# Altium integrated library HARTING DIN 41612 Type M.IntLib: 24 symbols
Pins are listed as number, name and electrical type; pins without a type are passive.

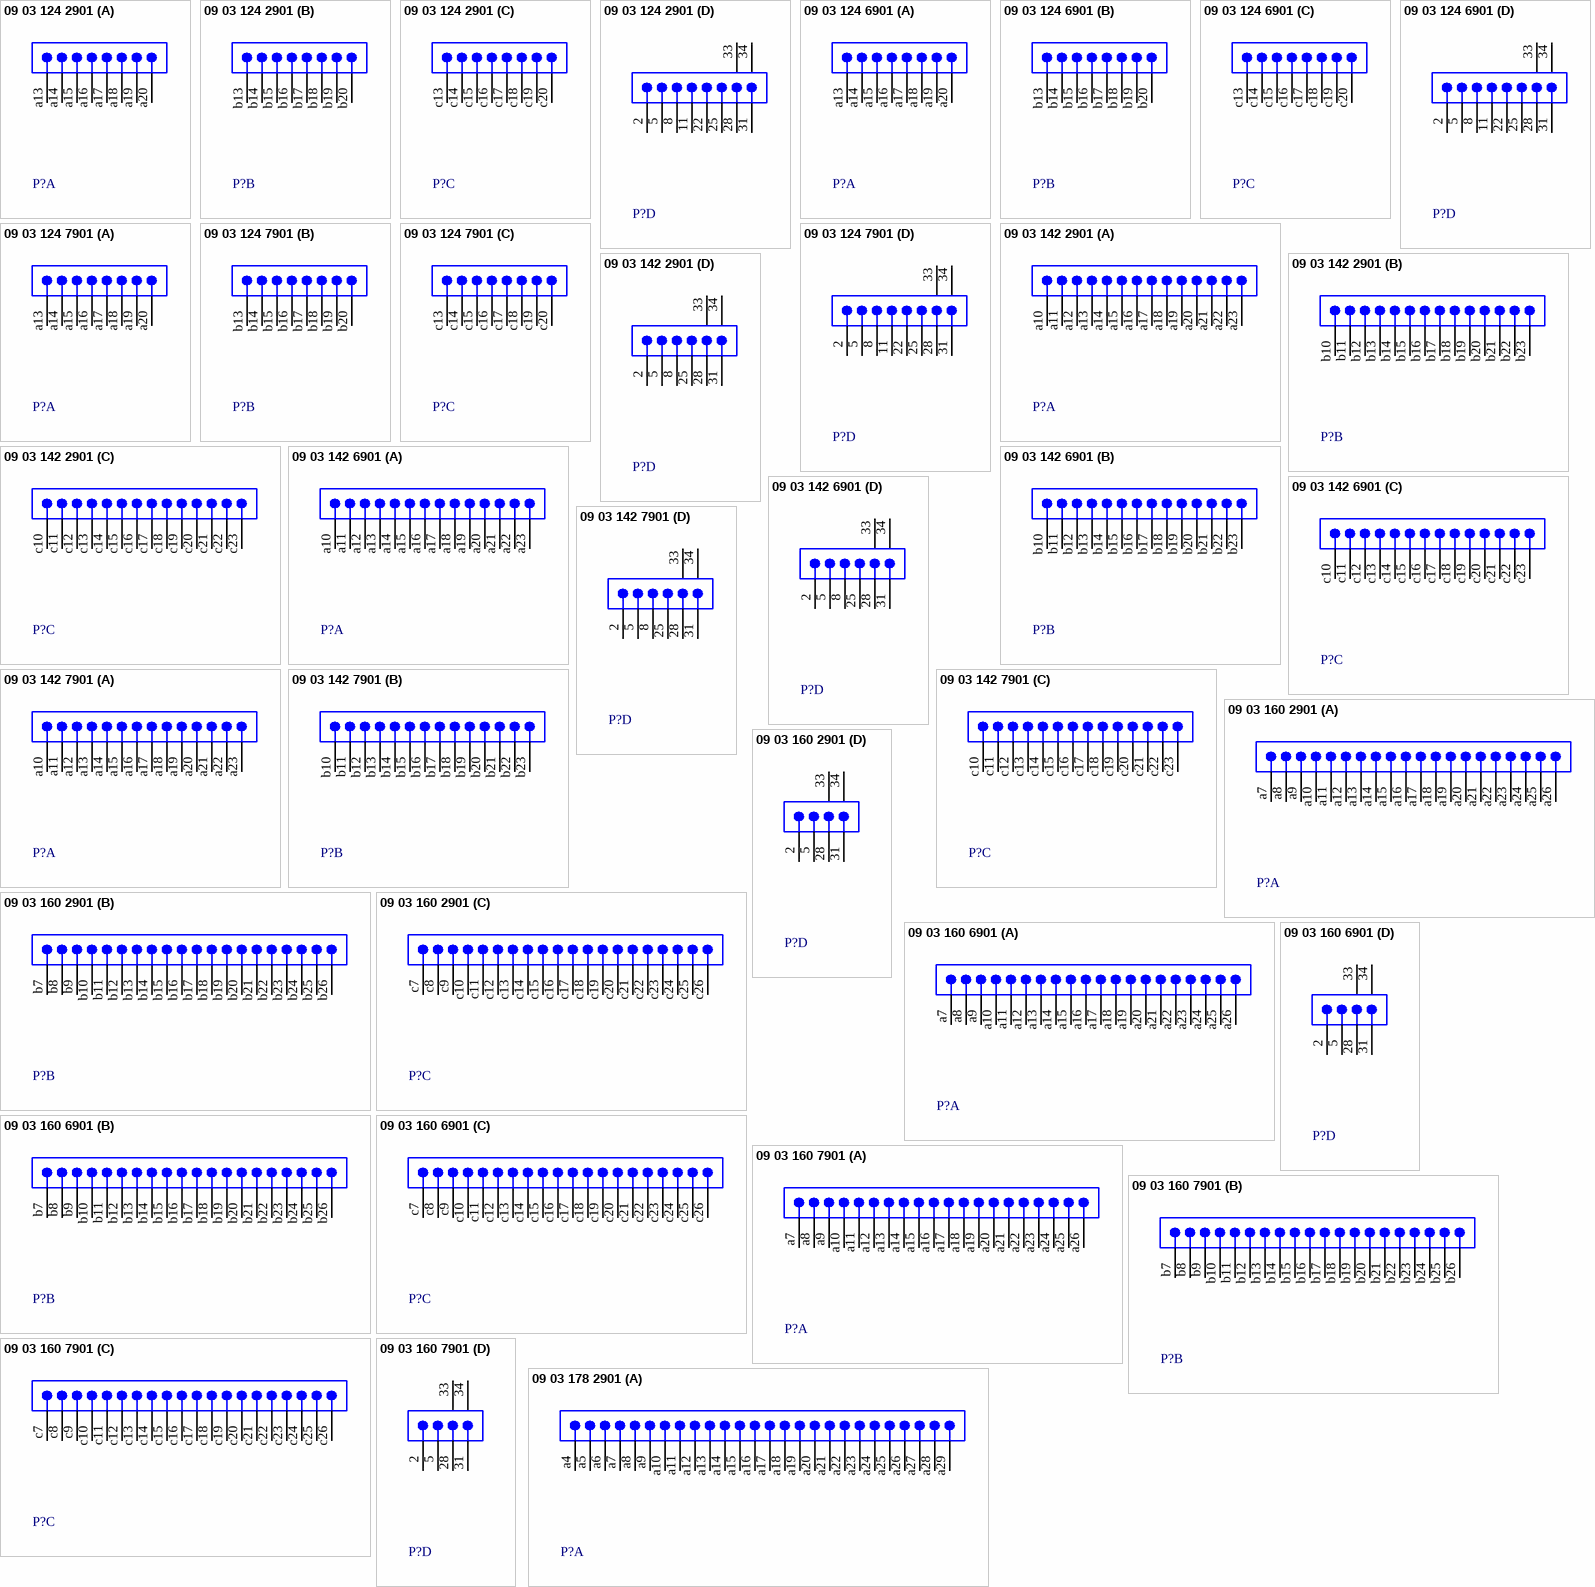
[diagram p0: symbols 09 03 124 2901 to 09 03 178 2901]

## 09 03 124 2901
designator P?
Eurocard DIN 41612, Type M, 24+8 High Current/Coax, Rows a+b+c, Performance level 1, Male, Lead 3.0 mm, Pitch 2.54 mm; Note: Pins 2, 5, 8, 11, 22, 25, 28 and 31 are not directly connected to the board.; DrillSize: Corresponds to nominal value.; Published: 6-Oct-2005; DatasheetDocument: 02-Jun-2003; PackageDocument: 26-Jul-2001; PackageReference: 0903124x901; Publisher: Altium Limited; ComponentLink1Description: Manufacturer Link; ComponentLink1URL: http://www.harting.com/; ComponentLink2Description: Packaging Specification; ComponentLink2URL: http://www.harkis.harting.com/_gds/pdf/TB_0903124x901_BL01_R30054.pdf
footprint 0903124x901 (Connector; DIN 41612, Type M, Thru-Hole; Rows a+b+c, 24 Position; Right Angle)
signal-integrity model DIN 41612
part A pins: a13, a14, a15, a16, a17, a18, a19, a20
part B pins: b13, b14, b15, b16, b17, b18, b19, b20
part C pins: c13, c14, c15, c16, c17, c18, c19, c20
part D pins: 2, 5, 8, 11, 22, 25, 28, 31, 33 MH1 "Mounting Fixture", 34 MH2 "Mounting Fixture"

## 09 03 124 6901
designator P?
Eurocard DIN 41612, Type M, 24+8 High Current/Coax, Rows a+b+c, Performance level 2, Male, Lead 3.0 mm, Pitch 2.54 mm; Note: Pins 2, 5, 8, 11, 22, 25, 28 and 31 are not directly connected to the board.; DrillSize: Corresponds to nominal value.; Published: 6-Oct-2005; DatasheetDocument: 02-Jun-2003; PackageDocument: 26-Jul-2001; PackageReference: 0903124x901; Publisher: Altium Limited; ComponentLink1Description: Manufacturer Link; ComponentLink1URL: http://www.harting.com/; ComponentLink2Description: Packaging Specification; ComponentLink2URL: http://www.harkis.harting.com/_gds/pdf/TB_0903124x901_BL01_R30054.pdf
footprint 0903124x901 (Connector; DIN 41612, Type M, Thru-Hole; Rows a+b+c, 24 Position; Right Angle)
signal-integrity model DIN 41612
part A pins: a13, a14, a15, a16, a17, a18, a19, a20
part B pins: b13, b14, b15, b16, b17, b18, b19, b20
part C pins: c13, c14, c15, c16, c17, c18, c19, c20
part D pins: 2, 5, 8, 11, 22, 25, 28, 31, 33 MH1 "Mounting Fixture", 34 MH2 "Mounting Fixture"

## 09 03 124 7901
designator P?
Eurocard DIN 41612, Type M, 24+8 High Current/Coax, Rows a+b+c, Performance level 3, Male, Lead 3.0 mm, Pitch 2.54 mm; Note: Pins 2, 5, 8, 11, 22, 25, 28 and 31 are not directly connected to the board.; DrillSize: Corresponds to nominal value.; Published: 6-Oct-2005; DatasheetDocument: 02-Jun-2003; PackageDocument: 26-Jul-2001; PackageReference: 0903124x901; Publisher: Altium Limited; ComponentLink1Description: Manufacturer Link; ComponentLink1URL: http://www.harting.com/; ComponentLink2Description: Packaging Specification; ComponentLink2URL: http://www.harkis.harting.com/_gds/pdf/TB_0903124x901_BL01_R30054.pdf
footprint 0903124x901 (Connector; DIN 41612, Type M, Thru-Hole; Rows a+b+c, 24 Position; Right Angle)
signal-integrity model DIN 41612
part A pins: a13, a14, a15, a16, a17, a18, a19, a20
part B pins: b13, b14, b15, b16, b17, b18, b19, b20
part C pins: c13, c14, c15, c16, c17, c18, c19, c20
part D pins: 2, 5, 8, 11, 22, 25, 28, 31, 33 MH1 "Mounting Fixture", 34 MH2 "Mounting Fixture"

## 09 03 142 2901
designator P?
Eurocard DIN 41612, Type M, 42+6 High Current/Coax, Rows a+b+c, Performance level 1, Male, Lead 3.0 mm, Pitch 2.54 mm; Note: Pins 2, 5, 8, 25, 28 and 31 are not directly connected to the board.; DrillSize: Corresponds to nominal value.; Published: 6-Oct-2005; DatasheetDocument: 02-Jun-2003; PackageDocument: 24-Jul-2001; PackageReference: 0903142x901; Publisher: Altium Limited; ComponentLink1Description: Manufacturer Link; ComponentLink1URL: http://www.harting.com/; ComponentLink2Description: Packaging Specification; ComponentLink2URL: http://www.harkis.harting.com/_gds/pdf/TB_0903142x901_BL01_R30016.pdf
footprint 0903142x901 (Connector; DIN 41612, Type M, Thru-Hole; Rows a+b+c, 42 Position; Right Angle)
signal-integrity model DIN 41612
part A pins: a10, a11, a12, a13, a14, a15, a16, a17, a18, a19, a20, a21, a22, a23
part B pins: b10, b11, b12, b13, b14, b15, b16, b17, b18, b19, b20, b21, b22, b23
part C pins: c10, c11, c12, c13, c14, c15, c16, c17, c18, c19, c20, c21, c22, c23
part D pins: 2, 5, 8, 25, 28, 31, 33 MH1 "Mounting Fixture", 34 MH2 "Mounting Fixture"

## 09 03 142 6901
designator P?
Eurocard DIN 41612, Type M, 42+6 High Current/Coax, Rows a+b+c, Performance level 2, Male, Lead 3.0 mm, Pitch 2.54 mm; Note: Pins 2, 5, 8, 25, 28 and 31 are not directly connected to the board.; DrillSize: Corresponds to nominal value.; Published: 6-Oct-2005; DatasheetDocument: 02-Jun-2003; PackageDocument: 24-Jul-2001; PackageReference: 0903142x901; Publisher: Altium Limited; ComponentLink1Description: Manufacturer Link; ComponentLink1URL: http://www.harting.com/; ComponentLink2Description: Packaging Specification; ComponentLink2URL: http://www.harkis.harting.com/_gds/pdf/TB_0903142x901_BL01_R30016.pdf
footprint 0903142x901 (Connector; DIN 41612, Type M, Thru-Hole; Rows a+b+c, 42 Position; Right Angle)
signal-integrity model DIN 41612
part A pins: a10, a11, a12, a13, a14, a15, a16, a17, a18, a19, a20, a21, a22, a23
part B pins: b10, b11, b12, b13, b14, b15, b16, b17, b18, b19, b20, b21, b22, b23
part C pins: c10, c11, c12, c13, c14, c15, c16, c17, c18, c19, c20, c21, c22, c23
part D pins: 2, 5, 8, 25, 28, 31, 33 MH1 "Mounting Fixture", 34 MH2 "Mounting Fixture"

## 09 03 142 7901
designator P?
Eurocard DIN 41612, Type M, 42+6 High Current/Coax, Rows a+b+c, Performance level 3, Male, Lead 3.0 mm, Pitch 2.54 mm; Note: Pins 2, 5, 8, 25, 28 and 31 are not directly connected to the board.; DrillSize: Corresponds to nominal value.; Published: 6-Oct-2005; DatasheetDocument: 02-Jun-2003; PackageDocument: 24-Jul-2001; PackageReference: 0903142x901; Publisher: Altium Limited; ComponentLink1Description: Manufacturer Link; ComponentLink1URL: http://www.harting.com/; ComponentLink2Description: Packaging Specification; ComponentLink2URL: http://www.harkis.harting.com/_gds/pdf/TB_0903142x901_BL01_R30016.pdf
footprint 0903142x901 (Connector; DIN 41612, Type M, Thru-Hole; Rows a+b+c, 42 Position; Right Angle)
signal-integrity model DIN 41612
part A pins: a10, a11, a12, a13, a14, a15, a16, a17, a18, a19, a20, a21, a22, a23
part B pins: b10, b11, b12, b13, b14, b15, b16, b17, b18, b19, b20, b21, b22, b23
part C pins: c10, c11, c12, c13, c14, c15, c16, c17, c18, c19, c20, c21, c22, c23
part D pins: 2, 5, 8, 25, 28, 31, 33 MH1 "Mounting Fixture", 34 MH2 "Mounting Fixture"

## 09 03 160 2901
designator P?
Eurocard DIN 41612, Type M, 60+4 High Current/Coax, Rows a+b+c, Performance level 1, Male, Lead 3.0 mm, Pitch 2.54 mm; Note: Pins 2, 5, 28 and 31 are not directly connected to the board.; DrillSize: Corresponds to nominal value.; Published: 6-Oct-2005; DatasheetDocument: 02-Jun-2003; PackageDocument: 20-Jul-2001; PackageReference: 0903160x901; Publisher: Altium Limited; ComponentLink1Description: Manufacturer Link; ComponentLink1URL: http://www.harting.com/; ComponentLink2Description: Packaging Specification; ComponentLink2URL: http://www.harkis.harting.com/_gds/pdf/TB_0903160x901_BL01_R30012.pdf
footprint 0903160x901 (Connector; DIN 41612, Type M, Thru-Hole; Rows a+b+c, 60 Position; Right Angle)
signal-integrity model DIN 41612
part A pins: a7, a8, a9, a10, a11, a12, a13, a14, a15, a16, a17, a18, a19, a20, a21, a22, a23, a24, a25, a26
part B pins: b7, b8, b9, b10, b11, b12, b13, b14, b15, b16, b17, b18, b19, b20, b21, b22, b23, b24, b25, b26
part C pins: c7, c8, c9, c10, c11, c12, c13, c14, c15, c16, c17, c18, c19, c20, c21, c22, c23, c24, c25, c26
part D pins: 2, 5, 28, 31, 33 MH1 "Mounting Fixture", 34 MH2 "Mounting Fixture"

## 09 03 160 6901
designator P?
Eurocard DIN 41612, Type M, 60+4 High Current/Coax, Rows a+b+c, Performance level 2, Male, Lead 3.0 mm, Pitch 2.54 mm; Note: Pins 2, 5, 28 and 31 are not directly connected to the board.; DrillSize: Corresponds to nominal value.; Published: 6-Oct-2005; DatasheetDocument: 02-Jun-2003; PackageDocument: 20-Jul-2001; PackageReference: 0903160x901; Publisher: Altium Limited; ComponentLink1Description: Manufacturer Link; ComponentLink1URL: http://www.harting.com/; ComponentLink2Description: Packaging Specification; ComponentLink2URL: http://www.harkis.harting.com/_gds/pdf/TB_0903160x901_BL01_R30012.pdf
footprint 0903160x901 (Connector; DIN 41612, Type M, Thru-Hole; Rows a+b+c, 60 Position; Right Angle)
signal-integrity model DIN 41612
part A pins: a7, a8, a9, a10, a11, a12, a13, a14, a15, a16, a17, a18, a19, a20, a21, a22, a23, a24, a25, a26
part B pins: b7, b8, b9, b10, b11, b12, b13, b14, b15, b16, b17, b18, b19, b20, b21, b22, b23, b24, b25, b26
part C pins: c7, c8, c9, c10, c11, c12, c13, c14, c15, c16, c17, c18, c19, c20, c21, c22, c23, c24, c25, c26
part D pins: 2, 5, 28, 31, 33 MH1 "Mounting Fixture", 34 MH2 "Mounting Fixture"

## 09 03 160 7901
designator P?
Eurocard DIN 41612, Type M, 60+4 High Current/Coax, Rows a+b+c, Performance level 3, Male, Lead 3.0 mm, Pitch 2.54 mm; Note: Pins 2, 5, 28 and 31 are not directly connected to the board.; DrillSize: Corresponds to nominal value.; Published: 6-Oct-2005; DatasheetDocument: 02-Jun-2003; PackageDocument: 20-Jul-2001; PackageReference: 0903160x901; Publisher: Altium Limited; ComponentLink1Description: Manufacturer Link; ComponentLink1URL: http://www.harting.com/; ComponentLink2Description: Packaging Specification; ComponentLink2URL: http://www.harkis.harting.com/_gds/pdf/TB_0903160x901_BL01_R30012.pdf
footprint 0903160x901 (Connector; DIN 41612, Type M, Thru-Hole; Rows a+b+c, 60 Position; Right Angle)
signal-integrity model DIN 41612
part A pins: a7, a8, a9, a10, a11, a12, a13, a14, a15, a16, a17, a18, a19, a20, a21, a22, a23, a24, a25, a26
part B pins: b7, b8, b9, b10, b11, b12, b13, b14, b15, b16, b17, b18, b19, b20, b21, b22, b23, b24, b25, b26
part C pins: c7, c8, c9, c10, c11, c12, c13, c14, c15, c16, c17, c18, c19, c20, c21, c22, c23, c24, c25, c26
part D pins: 2, 5, 28, 31, 33 MH1 "Mounting Fixture", 34 MH2 "Mounting Fixture"

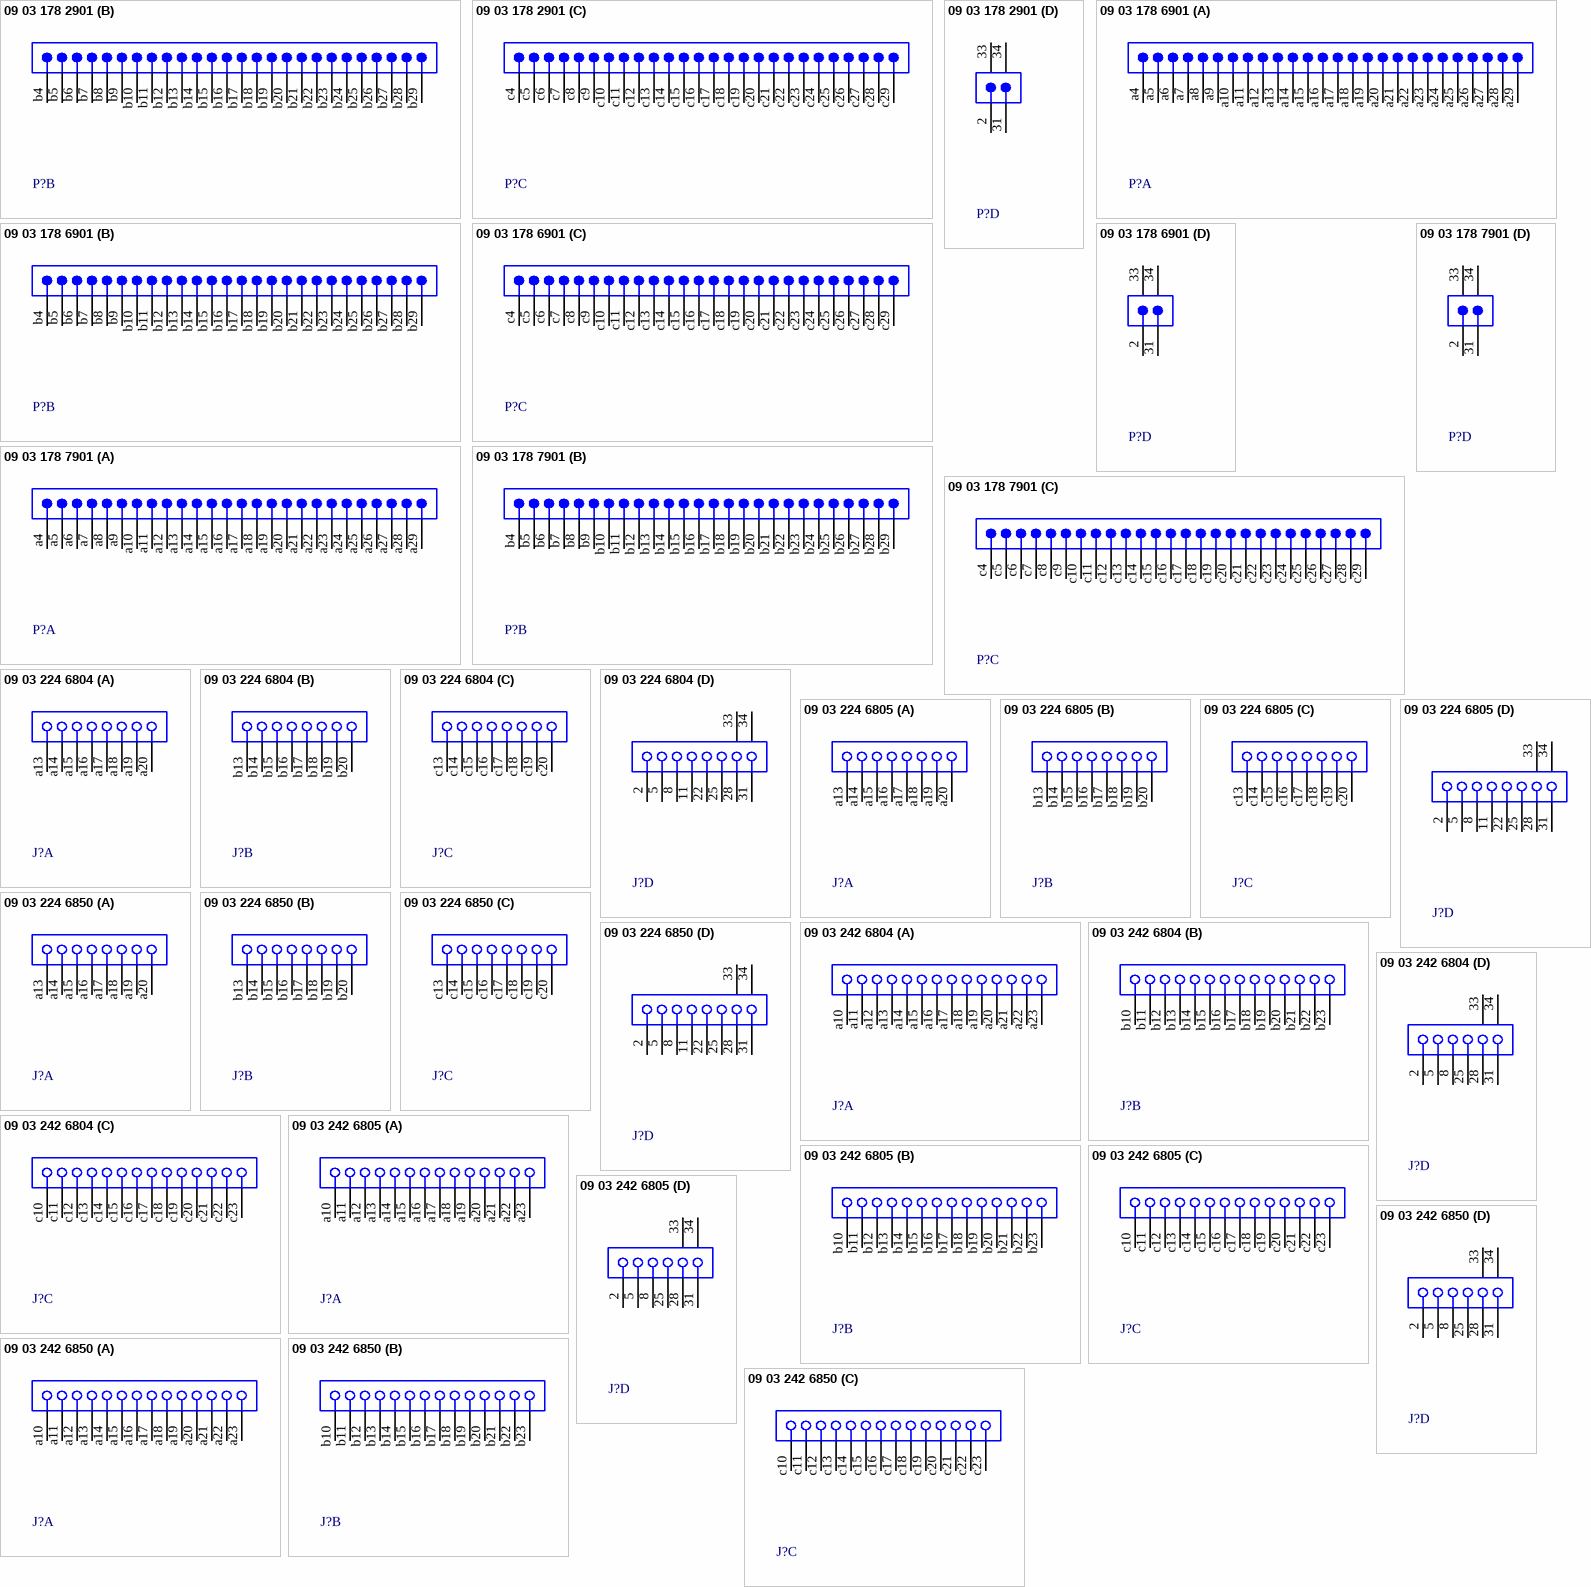
[diagram p1: symbols 09 03 178 2901 to 09 03 242 6850]

## 09 03 178 2901
designator P?
Eurocard DIN 41612, Type M, 78+2 High Current/Coax, Rows a+b+c, Performance level 1, Male, Lead 3.0 mm, Pitch 2.54 mm; Note: Pins 2 and 31 are not directly connected to the board.; DrillSize: Corresponds to nominal value.; Published: 6-Oct-2005; DatasheetDocument: 02-Jun-2003; PackageDocument: 09-Jul-2001; PackageReference: 0903178x901; Publisher: Altium Limited; ComponentLink1Description: Manufacturer Link; ComponentLink1URL: http://www.harting.com/; ComponentLink2Description: Packaging Specification; ComponentLink2URL: http://www.harkis.harting.com/_gds/pdf/TB_0903178x901_BL01_R30007.pdf
footprint 0903178x901 (Connector; DIN 41612, Type M, Thru-Hole; Rows a+b+c, 78 Position; Right Angle)
signal-integrity model DIN 41612
part A pins: a4, a5, a6, a7, a8, a9, a10, a11, a12, a13, a14, a15, a16, a17, a18, a19, a20, a21, a22, a23, a24, a25, a26, a27, a28, a29
part B pins: b4, b5, b6, b7, b8, b9, b10, b11, b12, b13, b14, b15, b16, b17, b18, b19, b20, b21, b22, b23, b24, b25, b26, b27, b28, b29
part C pins: c4, c5, c6, c7, c8, c9, c10, c11, c12, c13, c14, c15, c16, c17, c18, c19, c20, c21, c22, c23, c24, c25, c26, c27, c28, c29
part D pins: 2, 31, 33 MH1 "Mounting Fixture", 34 MH2 "Mounting Fixture"

## 09 03 178 6901
designator P?
Eurocard DIN 41612, Type M, 78+2 High Current/Coax, Rows a+b+c, Performance level 2, Male, Lead 3.0 mm, Pitch 2.54 mm; Note: Pins 2 and 31 are not directly connected to the board.; DrillSize: Corresponds to nominal value.; Published: 6-Oct-2005; DatasheetDocument: 02-Jun-2003; PackageDocument: 09-Jul-2001; PackageReference: 0903178x901; Publisher: Altium Limited; ComponentLink1Description: Manufacturer Link; ComponentLink1URL: http://www.harting.com/; ComponentLink2Description: Packaging Specification; ComponentLink2URL: http://www.harkis.harting.com/_gds/pdf/TB_0903178x901_BL01_R30007.pdf
footprint 0903178x901 (Connector; DIN 41612, Type M, Thru-Hole; Rows a+b+c, 78 Position; Right Angle)
signal-integrity model DIN 41612
part A pins: a4, a5, a6, a7, a8, a9, a10, a11, a12, a13, a14, a15, a16, a17, a18, a19, a20, a21, a22, a23, a24, a25, a26, a27, a28, a29
part B pins: b4, b5, b6, b7, b8, b9, b10, b11, b12, b13, b14, b15, b16, b17, b18, b19, b20, b21, b22, b23, b24, b25, b26, b27, b28, b29
part C pins: c4, c5, c6, c7, c8, c9, c10, c11, c12, c13, c14, c15, c16, c17, c18, c19, c20, c21, c22, c23, c24, c25, c26, c27, c28, c29
part D pins: 2, 31, 33 MH1 "Mounting Fixture", 34 MH2 "Mounting Fixture"

## 09 03 178 7901
designator P?
Eurocard DIN 41612, Type M, 78+2 High Current/Coax, Rows a+b+c, Performance level 3, Male, Lead 3.0 mm, Pitch 2.54 mm; Note: Pins 2 and 31 are not directly connected to the board.; DrillSize: Corresponds to nominal value.; Published: 6-Oct-2005; DatasheetDocument: 02-Jun-2003; PackageDocument: 09-Jul-2001; PackageReference: 0903178x901; Publisher: Altium Limited; ComponentLink1Description: Manufacturer Link; ComponentLink1URL: http://www.harting.com/; ComponentLink2Description: Packaging Specification; ComponentLink2URL: http://www.harkis.harting.com/_gds/pdf/TB_0903178x901_BL01_R30007.pdf
footprint 0903178x901 (Connector; DIN 41612, Type M, Thru-Hole; Rows a+b+c, 78 Position; Right Angle)
signal-integrity model DIN 41612
part A pins: a4, a5, a6, a7, a8, a9, a10, a11, a12, a13, a14, a15, a16, a17, a18, a19, a20, a21, a22, a23, a24, a25, a26, a27, a28, a29
part B pins: b4, b5, b6, b7, b8, b9, b10, b11, b12, b13, b14, b15, b16, b17, b18, b19, b20, b21, b22, b23, b24, b25, b26, b27, b28, b29
part C pins: c4, c5, c6, c7, c8, c9, c10, c11, c12, c13, c14, c15, c16, c17, c18, c19, c20, c21, c22, c23, c24, c25, c26, c27, c28, c29
part D pins: 2, 31, 33 MH1 "Mounting Fixture", 34 MH2 "Mounting Fixture"

## 09 03 224 6804
designator J?
Eurocard DIN 41612, Type M, 24+8 High Current/Coax, Rows a+b+c, Performance level 2, Female, Lead 2.9 mm, Pitch 2.54 mm; DrillSize: Corresponds to nominal value.; Published: 6-Oct-2005; DatasheetDocument: 02-Jun-2003; PackageDocument: 15-Oct-1999; PackageReference: 0903224x804; Publisher: Altium Limited; ComponentLink1Description: Manufacturer Link; ComponentLink1URL: http://www.harting.com/; ComponentLink2Description: Packaging Specification; ComponentLink2URL: http://www.harkis.harting.com/_gds/pdf/TB_0903224x804_BL01_R30249.pdf
footprint 0903224x804 (Connector; DIN 41612, Type M, Thru-Hole; Rows a+b+c, 24 Position; Vertical)
signal-integrity model DIN 41612
part A pins: a13, a14, a15, a16, a17, a18, a19, a20
part B pins: b13, b14, b15, b16, b17, b18, b19, b20
part C pins: c13, c14, c15, c16, c17, c18, c19, c20
part D pins: 2, 5, 8, 11, 22, 25, 28, 31, 33 MH1, 34 MH2

## 09 03 224 6805
designator J?
Eurocard DIN 41612, Type M, 24+8 High Current/Coax, Rows a+b+c, Performance level 2, Female, Lead 4.5 mm, Pitch 2.54 mm; DrillSize: Corresponds to nominal value.; Published: 6-Oct-2005; DatasheetDocument: 02-Jun-2003; PackageDocument: 15-Oct-1999; PackageReference: 0903224x805; Publisher: Altium Limited; ComponentLink1Description: Manufacturer Link; ComponentLink1URL: http://www.harting.com/; ComponentLink2Description: Packaging Specification; ComponentLink2URL: http://www.harkis.harting.com/_gds/pdf/TB_0903224x805_BL01_R30249.pdf
footprint 0903224x805 (Connector; DIN 41612, Type M, Thru-Hole; Rows a+b+c, 24 Position; Vertical)
signal-integrity model DIN 41612
part A pins: a13, a14, a15, a16, a17, a18, a19, a20
part B pins: b13, b14, b15, b16, b17, b18, b19, b20
part C pins: c13, c14, c15, c16, c17, c18, c19, c20
part D pins: 2, 5, 8, 11, 22, 25, 28, 31, 33 MH1, 34 MH2

## 09 03 224 6850
designator J?
Eurocard DIN 41612, Type M, 24+8 High Current/Coax, Rows a+b+c, Performance level 2, Female, Lead 4.5 mm, Pitch 2.54 mm; DrillSize: Corresponds to nominal value.; Published: 6-Oct-2005; DatasheetDocument: 03-Jun-2003; PackageDocument: 15-Oct-1999; PackageReference: 0903224x850; Publisher: Altium Limited; ComponentLink1Description: Manufacturer Link; ComponentLink1URL: http://www.harting.com/; ComponentLink2Description: Packaging Specification; ComponentLink2URL: http://www.harkis.harting.com/_gds/pdf/TB_0903224x850_BL01_R30249.pdf
footprint 0903224x850 (Connector; DIN 41612, Type M, Thru-Hole; Rows a+b+c, 24 Position; Vertical)
signal-integrity model DIN 41612
part A pins: a13, a14, a15, a16, a17, a18, a19, a20
part B pins: b13, b14, b15, b16, b17, b18, b19, b20
part C pins: c13, c14, c15, c16, c17, c18, c19, c20
part D pins: 2, 5, 8, 11, 22, 25, 28, 31, 33 MH1, 34 MH2

## 09 03 242 6804
designator J?
Eurocard DIN 41612, Type M, 42+6 High Current/Coax, Rows a+b+c, Performance level 2, Female, Lead 2.9 mm, Pitch 2.54 mm; DrillSize: Corresponds to nominal value.; Published: 6-Oct-2005; DatasheetDocument: 02-Jun-2003; PackageDocument: 15-Oct-1999; PackageReference: 0903242x804; Publisher: Altium Limited; ComponentLink1Description: Manufacturer Link; ComponentLink1URL: http://www.harting.com/; ComponentLink2Description: Packaging Specification; ComponentLink2URL: http://www.harkis.harting.com/_gds/pdf/TB_0903242x804_BL01_R30248.pdf
footprint 0903242x804 (Connector; DIN 41612, Type M, Thru-Hole; Rows a+b+c, 42 Position; Vertical)
signal-integrity model DIN 41612
part A pins: a10, a11, a12, a13, a14, a15, a16, a17, a18, a19, a20, a21, a22, a23
part B pins: b10, b11, b12, b13, b14, b15, b16, b17, b18, b19, b20, b21, b22, b23
part C pins: c10, c11, c12, c13, c14, c15, c16, c17, c18, c19, c20, c21, c22, c23
part D pins: 2, 5, 8, 25, 28, 31, 33 MH1 "Mounting Fixture", 34 MH2 "Mounting Fixture"

## 09 03 242 6805
designator J?
Eurocard DIN 41612, Type M, 42+6 High Current/Coax, Rows a+b+c, Performance level 2, Female, Lead 4.5 mm, Pitch 2.54 mm; DrillSize: Corresponds to nominal value.; Published: 6-Oct-2005; DatasheetDocument: 02-Jun-2003; PackageDocument: 15-Oct-1999; PackageReference: 0903242x805; Publisher: Altium Limited; ComponentLink1Description: Manufacturer Link; ComponentLink1URL: http://www.harting.com/; ComponentLink2Description: Packaging Specification; ComponentLink2URL: http://www.harkis.harting.com/_gds/pdf/TB_0903242x805_BL01_R30248.pdf
footprint 0903242x805 (Connector; DIN 41612, Type M, Thru-Hole; Rows a+b+c, 42 Position; Vertical)
signal-integrity model DIN 41612
part A pins: a10, a11, a12, a13, a14, a15, a16, a17, a18, a19, a20, a21, a22, a23
part B pins: b10, b11, b12, b13, b14, b15, b16, b17, b18, b19, b20, b21, b22, b23
part C pins: c10, c11, c12, c13, c14, c15, c16, c17, c18, c19, c20, c21, c22, c23
part D pins: 2, 5, 8, 25, 28, 31, 33 MH1 "Mounting Fixture", 34 MH2 "Mounting Fixture"

## 09 03 242 6850
designator J?
Eurocard DIN 41612, Type M, 42+6 High Current/Coax, Rows a+b+c, Performance level 2, Female, Lead 4.5 mm, Pitch 2.54 mm; DrillSize: Corresponds to nominal value.; Published: 6-Oct-2005; DatasheetDocument: 03-Jun-2003; PackageDocument: 15-Oct-1999; PackageReference: 0903242x850; Publisher: Altium Limited; ComponentLink1Description: Manufacturer Link; ComponentLink1URL: http://www.harting.com/; ComponentLink2Description: Packaging Specification; ComponentLink2URL: http://www.harkis.harting.com/_gds/pdf/TB_0903242x850_BL01_R30248.pdf
footprint 0903242x850 (Connector; DIN 41612, Type M, Thru-Hole; Rows a+b+c, 42 Position; Vertical)
signal-integrity model DIN 41612
part A pins: a10, a11, a12, a13, a14, a15, a16, a17, a18, a19, a20, a21, a22, a23
part B pins: b10, b11, b12, b13, b14, b15, b16, b17, b18, b19, b20, b21, b22, b23
part C pins: c10, c11, c12, c13, c14, c15, c16, c17, c18, c19, c20, c21, c22, c23
part D pins: 2, 5, 8, 25, 28, 31, 33 MH1 "Mounting Fixture", 34 MH2 "Mounting Fixture"

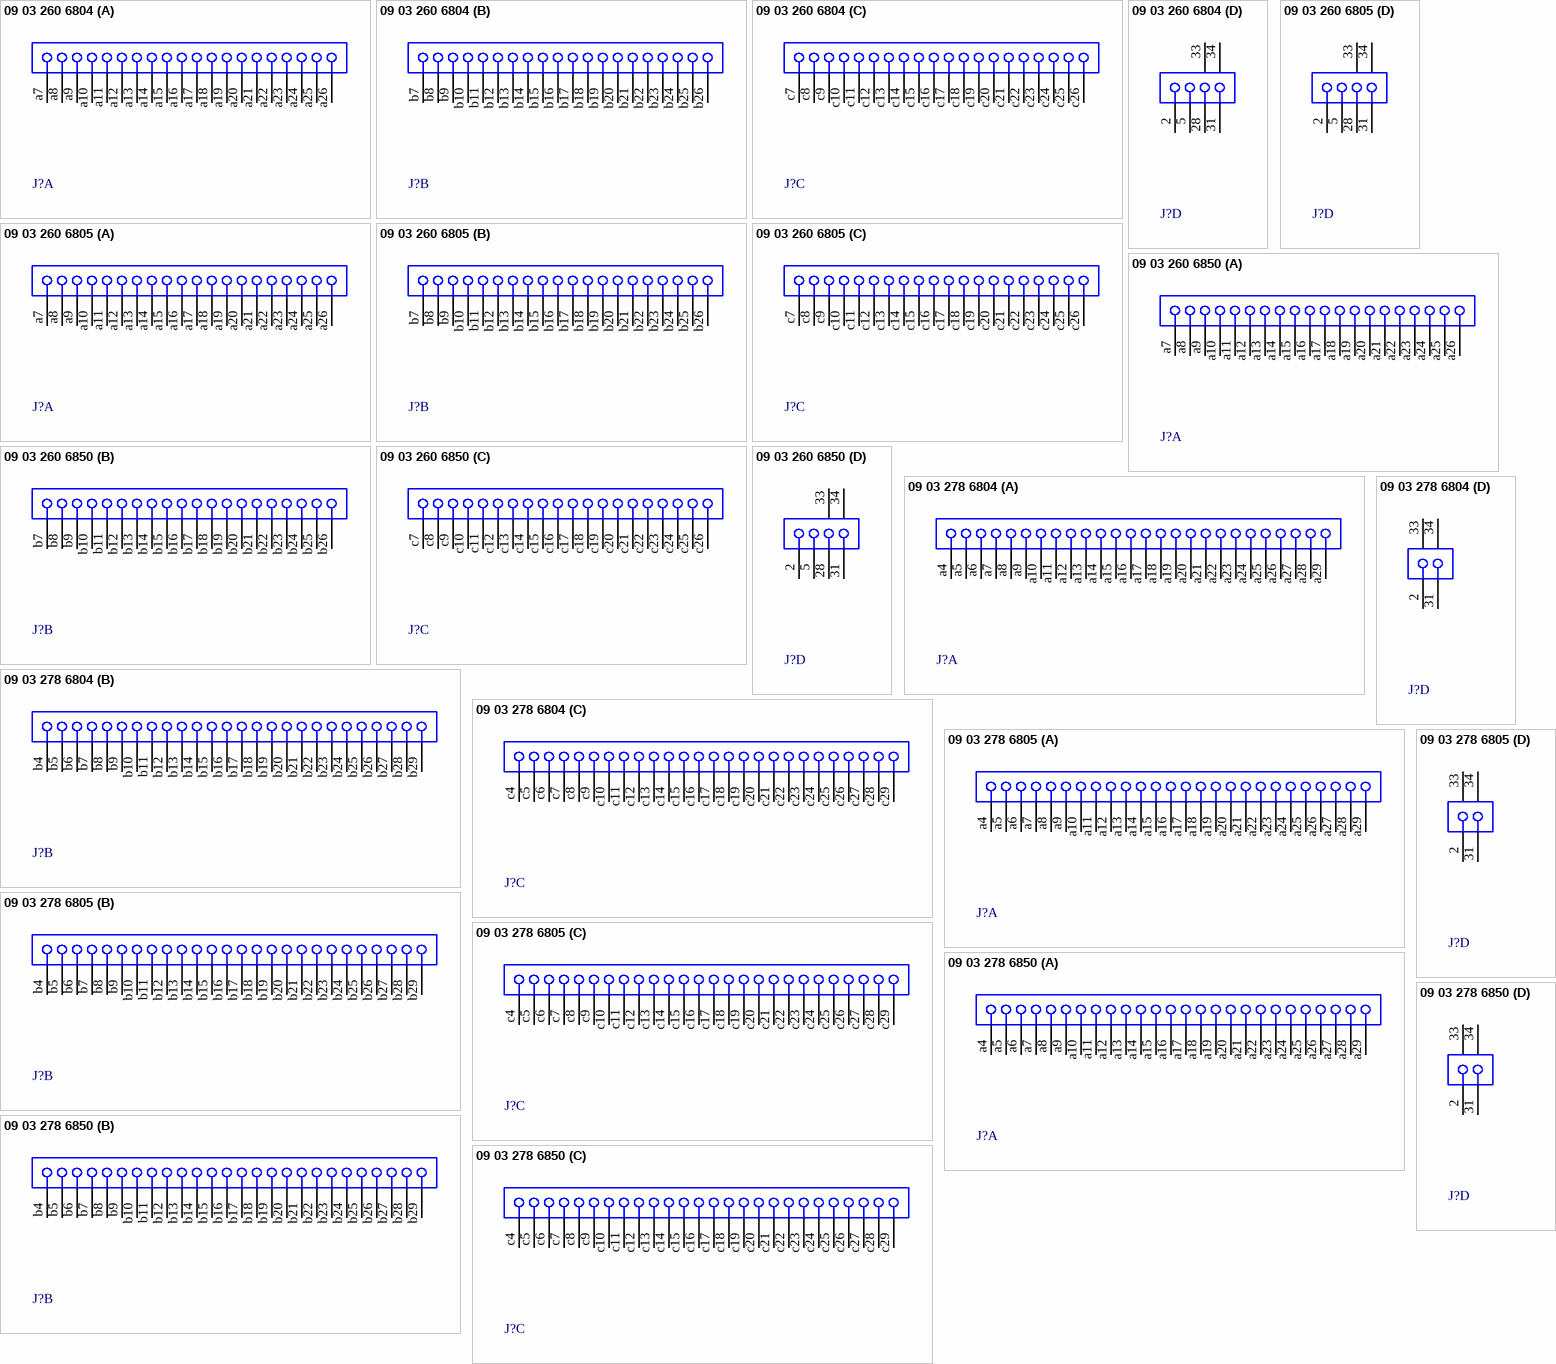
[diagram p2: symbols 09 03 260 6804 to 09 03 278 6850]

## 09 03 260 6804
designator J?
Eurocard DIN 41612, Type M, 60+4 High Current/Coax, Rows a+b+c, Performance level 2, Female, Lead 2.9 mm, Pitch 2.54 mm; DrillSize: Corresponds to nominal value.; Published: 6-Oct-2005; DatasheetDocument: 02-Jun-2003; PackageDocument: 15-Oct-1999; PackageReference: 0903260x804; Publisher: Altium Limited; ComponentLink1Description: Manufacturer Link; ComponentLink1URL: http://www.harting.com/; ComponentLink2Description: Packaging Specification; ComponentLink2URL: http://www.harkis.harting.com/_gds/pdf/TB_0903260x804_BL01_R30246.pdf
footprint 0903260x804 (Connector; DIN 41612, Type M, Thru-Hole; Rows a+b+c, 60 Position; Vertical)
signal-integrity model DIN 41612
part A pins: a7, a8, a9, a10, a11, a12, a13, a14, a15, a16, a17, a18, a19, a20, a21, a22, a23, a24, a25, a26
part B pins: b7, b8, b9, b10, b11, b12, b13, b14, b15, b16, b17, b18, b19, b20, b21, b22, b23, b24, b25, b26
part C pins: c7, c8, c9, c10, c11, c12, c13, c14, c15, c16, c17, c18, c19, c20, c21, c22, c23, c24, c25, c26
part D pins: 2, 5, 28, 31, 33 MH1 "Mounting Fixture", 34 MH2 "Mounting Fixture"

## 09 03 260 6805
designator J?
Eurocard DIN 41612, Type M, 60+4 High Current/Coax, Rows a+b+c, Performance level 2, Female, Lead 4.5 mm, Pitch 2.54 mm; DrillSize: Corresponds to nominal value.; Published: 6-Oct-2005; DatasheetDocument: 02-Jun-2003; PackageDocument: 15-Oct-1999; PackageReference: 0903260x805; Publisher: Altium Limited; ComponentLink1Description: Manufacturer Link; ComponentLink1URL: http://www.harting.com/; ComponentLink2Description: Packaging Specification; ComponentLink2URL: http://www.harkis.harting.com/_gds/pdf/TB_0903260x805_BL01_R30246.pdf
footprint 0903260x805 (Connector; DIN 41612, Type M, Thru-Hole; Rows a+b+c, 60 Position; Vertical)
signal-integrity model DIN 41612
part A pins: a7, a8, a9, a10, a11, a12, a13, a14, a15, a16, a17, a18, a19, a20, a21, a22, a23, a24, a25, a26
part B pins: b7, b8, b9, b10, b11, b12, b13, b14, b15, b16, b17, b18, b19, b20, b21, b22, b23, b24, b25, b26
part C pins: c7, c8, c9, c10, c11, c12, c13, c14, c15, c16, c17, c18, c19, c20, c21, c22, c23, c24, c25, c26
part D pins: 2, 5, 28, 31, 33 MH1 "Mounting Fixture", 34 MH2 "Mounting Fixture"

## 09 03 260 6850
designator J?
Eurocard DIN 41612, Type M, 60+4 High Current/Coax, Rows a+b+c, Performance level 2, Female, Lead 4.5 mm, Pitch 2.54 mm; DrillSize: Corresponds to nominal value.; Published: 6-Oct-2005; DatasheetDocument: 03-Jun-2003; PackageDocument: 15-Oct-1999; PackageReference: 0903260x850; Publisher: Altium Limited; ComponentLink1Description: Manufacturer Link; ComponentLink1URL: http://www.harting.com/; ComponentLink2Description: Packaging Specification; ComponentLink2URL: http://www.harkis.harting.com/_gds/pdf/TB_0903260x850_BL01_R30246.pdf
footprint 0903260x850 (Connector; DIN 41612, Type M, Thru-Hole; Rows a+b+c, 60 Position; Vertical)
signal-integrity model DIN 41612
part A pins: a7, a8, a9, a10, a11, a12, a13, a14, a15, a16, a17, a18, a19, a20, a21, a22, a23, a24, a25, a26
part B pins: b7, b8, b9, b10, b11, b12, b13, b14, b15, b16, b17, b18, b19, b20, b21, b22, b23, b24, b25, b26
part C pins: c7, c8, c9, c10, c11, c12, c13, c14, c15, c16, c17, c18, c19, c20, c21, c22, c23, c24, c25, c26
part D pins: 2, 5, 28, 31, 33 MH1 "Mounting Fixture", 34 MH2 "Mounting Fixture"

## 09 03 278 6804
designator J?
Eurocard DIN 41612, Type M, 78+2 High Current/Coax, Rows a+b+c, Performance level 2, Female, Lead 2.9 mm, Pitch 2.54 mm; DrillSize: Corresponds to nominal value.; Published: 6-Oct-2005; DatasheetDocument: 02-Jun-2003; PackageDocument: 15-Oct-1999; PackageReference: 0903278x804; Publisher: Altium Limited; ComponentLink1Description: Manufacturer Link; ComponentLink1URL: http://www.harting.com/; ComponentLink2Description: Packaging Specification; ComponentLink2URL: http://www.harkis.harting.com/_gds/pdf/TB_0903278x804_BL01_R30240.pdf
footprint 0903278x804 (Connector; DIN 41612, Type M, Thru-Hole; Rows a+b+c, 78 Position; Vertical)
signal-integrity model DIN 41612
part A pins: a4, a5, a6, a7, a8, a9, a10, a11, a12, a13, a14, a15, a16, a17, a18, a19, a20, a21, a22, a23, a24, a25, a26, a27, a28, a29
part B pins: b4, b5, b6, b7, b8, b9, b10, b11, b12, b13, b14, b15, b16, b17, b18, b19, b20, b21, b22, b23, b24, b25, b26, b27, b28, b29
part C pins: c4, c5, c6, c7, c8, c9, c10, c11, c12, c13, c14, c15, c16, c17, c18, c19, c20, c21, c22, c23, c24, c25, c26, c27, c28, c29
part D pins: 2, 31, 33 MH1 "Mounting Fixture", 34 MH2 "Mounting Fixture"

## 09 03 278 6805
designator J?
Eurocard DIN 41612, Type M, 78+2 High Current/Coax, Rows a+b+c, Performance level 2, Female, Lead 4.5 mm, Pitch 2.54 mm; DrillSize: Corresponds to nominal value.; Published: 6-Oct-2005; DatasheetDocument: 02-Jun-2003; PackageDocument: 15-Oct-1999; PackageReference: 0903278x805; Publisher: Altium Limited; ComponentLink1Description: Manufacturer Link; ComponentLink1URL: http://www.harting.com/; ComponentLink2Description: Packaging Specification; ComponentLink2URL: http://www.harkis.harting.com/_gds/pdf/TB_0903278x805_BL01_R30240.pdf
footprint 0903278x805 (Connector; DIN 41612, Type M, Thru-Hole; Rows a+b+c, 78 Position; Vertical)
signal-integrity model DIN 41612
part A pins: a4, a5, a6, a7, a8, a9, a10, a11, a12, a13, a14, a15, a16, a17, a18, a19, a20, a21, a22, a23, a24, a25, a26, a27, a28, a29
part B pins: b4, b5, b6, b7, b8, b9, b10, b11, b12, b13, b14, b15, b16, b17, b18, b19, b20, b21, b22, b23, b24, b25, b26, b27, b28, b29
part C pins: c4, c5, c6, c7, c8, c9, c10, c11, c12, c13, c14, c15, c16, c17, c18, c19, c20, c21, c22, c23, c24, c25, c26, c27, c28, c29
part D pins: 2, 31, 33 MH1 "Mounting Fixture", 34 MH2 "Mounting Fixture"

## 09 03 278 6850
designator J?
Eurocard DIN 41612, Type M, 78+2 High Current/Coax, Rows a+b+c, Performance level 2, Female, Lead 4.5 mm, Pitch 2.54 mm; DrillSize: Corresponds to nominal value.; Published: 6-Oct-2005; DatasheetDocument: 03-Jun-2003; PackageDocument: 15-Oct-1999; PackageReference: 0903278x850; Publisher: Altium Limited; ComponentLink1Description: Manufacturer Link; ComponentLink1URL: http://www.harting.com/; ComponentLink2Description: Packaging Specification; ComponentLink2URL: http://www.harkis.harting.com/_gds/pdf/TB_0903278x850_BL01_R30240.pdf
footprint 0903278x850 (Connector; DIN 41612, Type M, Thru-Hole; Rows a+b+c, 78 Position; Vertical)
signal-integrity model DIN 41612
part A pins: a4, a5, a6, a7, a8, a9, a10, a11, a12, a13, a14, a15, a16, a17, a18, a19, a20, a21, a22, a23, a24, a25, a26, a27, a28, a29
part B pins: b4, b5, b6, b7, b8, b9, b10, b11, b12, b13, b14, b15, b16, b17, b18, b19, b20, b21, b22, b23, b24, b25, b26, b27, b28, b29
part C pins: c4, c5, c6, c7, c8, c9, c10, c11, c12, c13, c14, c15, c16, c17, c18, c19, c20, c21, c22, c23, c24, c25, c26, c27, c28, c29
part D pins: 2, 31, 33 MH1 "Mounting Fixture", 34 MH2 "Mounting Fixture"